# Altium footprint library PcbLib1.PcbLib: 329 footprints (part 12 of 21)
Each footprint in its own frame and in the unit in brackets; x right, y up, seen from the top. Pads: shape width x height; smd on the part's side, far side on the other; paste and mask are expansions set on the pad; w line width, h text height; cw(c..) or ccw(c..) is an arc to the next point about the centre after c.
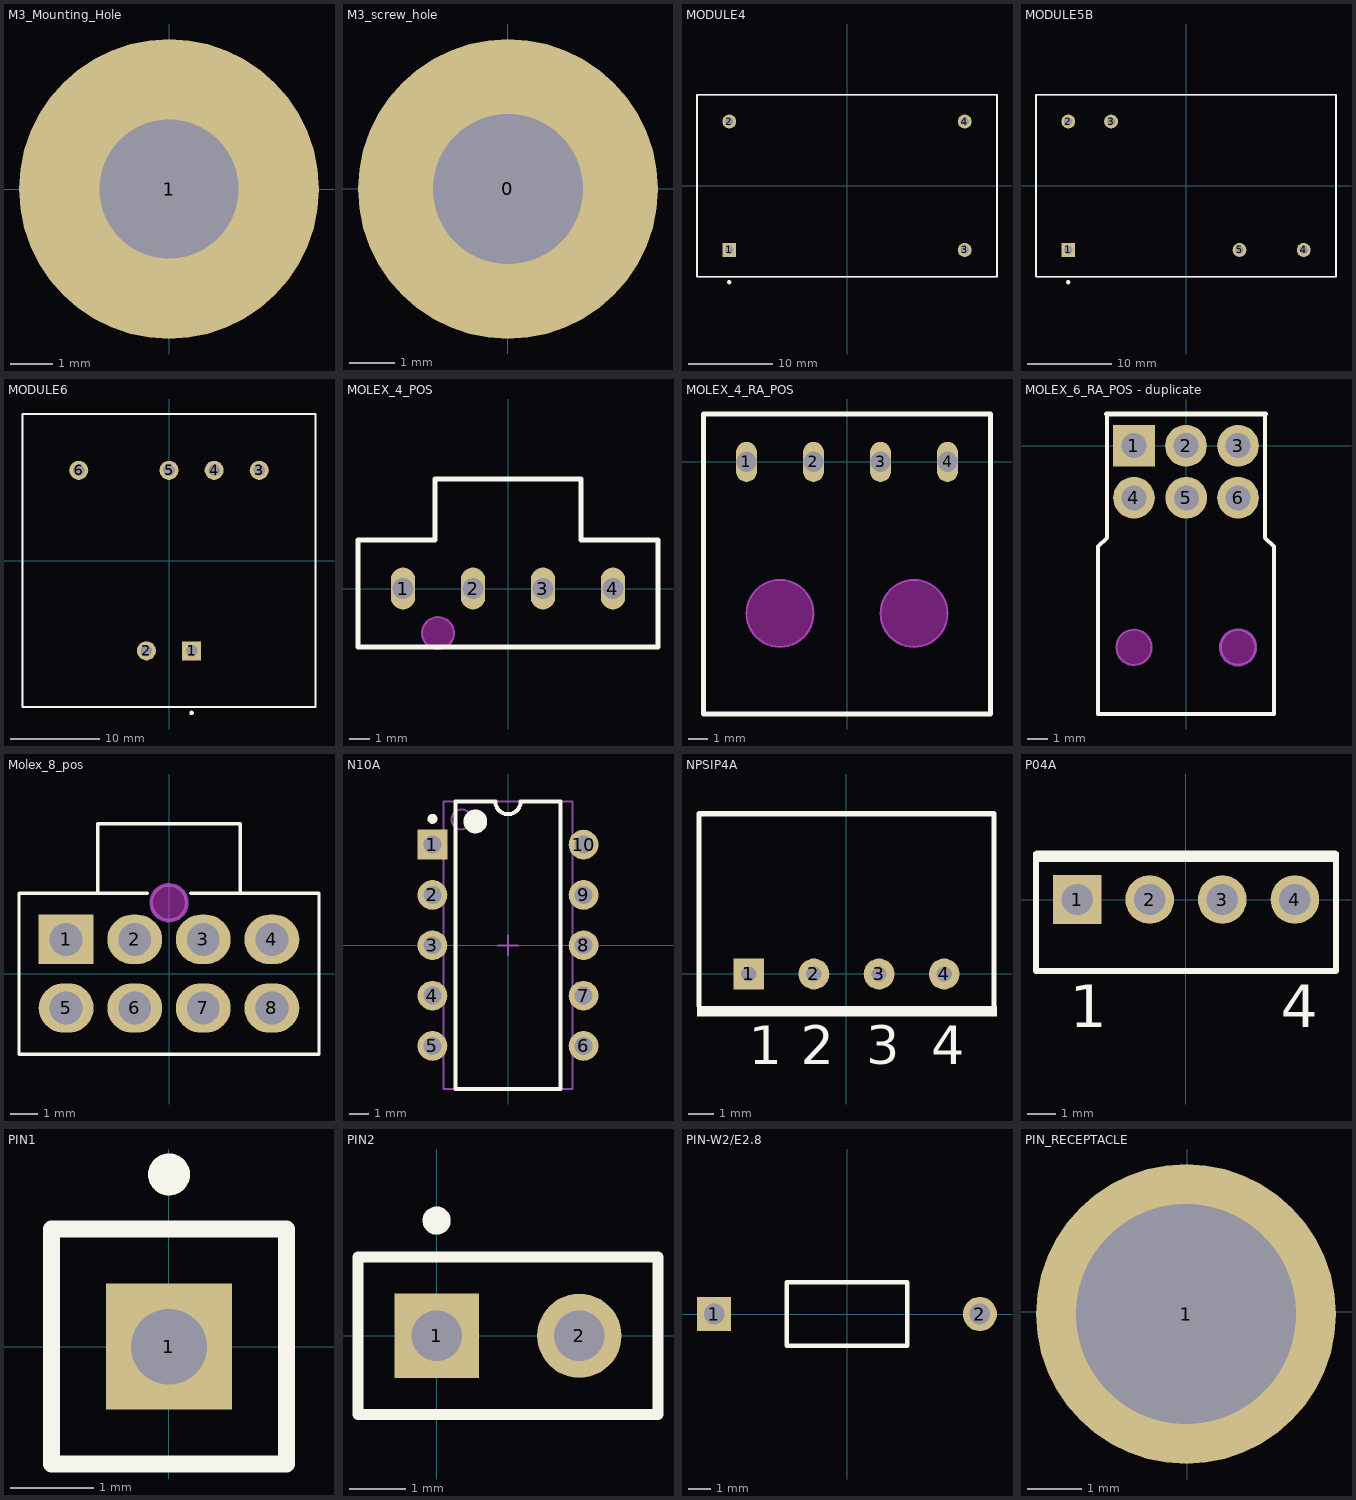
[diagram p11: the footprints below, top view; thin cyan lines are the x and y axes]

## M3_Mounting_Hole [mil] "Mounting Hole for M3 screw"
pads (1):
  round 280 hole 130: 1(0,0)

## M3_screw_hole [mil]
pads (1):
  round 260 hole 130: 0(0,0)

## MODULE4 [mm] "DIP; 4 Round Pins; Row Space 27.94 mm; Pitch 15.24 mm"
height 14
pads (4):
  rect 1.65x1.65 hole 1: 1(-13.97,-7.62)
  round 1.65 hole 1: 2(-13.97,7.62) 3(13.97,-7.62) 4(13.97,7.62)
Top Overlay:
  circle w0.25: c-13.97,-11.45 r0.125
  lines w0.2: -17.8,-10.8 17.8,-10.8 17.8,10.8 -17.8,10.8 -17.8,-10.8
Mechanical 13:
  lines w0.1: -17.8,-10.8 17.8,-10.8 17.8,10.8 -17.8,10.8 -17.8,-10.8
3D body: height 14, standoff 0, extent -17.8,-10.8 17.8,10.8

## MODULE5B [mm] "DIP; 5 Round Pins; Row Space 15.24 mm; Pitch 2.54 mm"
height 14
pads (5):
  rect 1.65x1.65 hole 1: 1(-13.97,-7.62)
  round 1.65 hole 1: 2(-13.97,7.62) 3(-8.89,7.62) 4(13.97,-7.62) 5(6.35,-7.62)
Top Overlay:
  circle w0.25: c-13.97,-11.45 r0.125
  lines w0.2: -17.8,-10.8 17.8,-10.8 17.8,10.8 -17.8,10.8 -17.8,-10.8
Mechanical 13:
  lines w0.1: -17.8,-10.8 -17.8,10.8 17.8,10.8 17.8,-10.8 -17.8,-10.8
3D body: height 14, standoff 0, extent -17.8,-10.8 17.8,10.8

## MODULE6 [mm] "DIP; 6 Round Pins; Row Space 20.32 mm; Pitch 2.54 mm"
height 16.5
pads (6):
  rect 2.15x2.15 hole 1.3: 1(2.54,-10.16)
  round 2.15 hole 1.3: 2(-2.54,-10.16) 3(10.16,10.16) 4(5.08,10.16) 5(0,10.16) 6(-10.16,10.16)
Top Overlay:
  circle w0.25: c2.54,-17.15 r0.125
  lines w0.2: -16.5,-16.5 16.5,-16.5 16.5,16.5 -16.5,16.5 -16.5,-16.5
Mechanical 13:
  lines w0.1: -16.5,-16.5 16.5,-16.5 16.5,16.5 -16.5,16.5 -16.5,-16.5
3D body: height 16.5, standoff 0, extent -16.5,-16.5 16.5,16.5

## MOLEX_4_POS [mm] "CONN HEADER VERT 4POS 3.5MM"
pads (4):
  oval 1.217x2.1 hole 1.06: 1(-5.25,0) 2(-1.75,0) 3(1.75,0) 4(5.25,0)
Top Overlay:
  lines w0.254: -7.5,2.42 -7.5,-2.93 7.5,-2.93 7.5,2.42 ; -7.402,2.42 -3.645,2.42 -3.645,5.48 3.645,5.48 3.645,2.42 7.44,2.42
Keep-Out Layer:
  board cut-out: -3.5,-3.03 -3.579,-3.03 -3.733,-2.999 -3.879,-2.939 -4.01,-2.851 -4.121,-2.74 -4.209,-2.609 -4.269,-2.463 -4.3,-2.309 -4.3,-2.23 -4.3,-2.151 -4.269,-1.997 -4.209,-1.851 -4.121,-1.72 -4.01,-1.609 -3.879,-1.521 -3.733,-1.461 -3.579,-1.43 -3.5,-1.43 -3.421,-1.43 -3.267,-1.461 -3.121,-1.521 -2.99,-1.609 -2.879,-1.72 -2.791,-1.851 -2.731,-1.997 -2.7,-2.151 -2.7,-2.23 -2.7,-2.309 -2.731,-2.463 -2.791,-2.609 -2.879,-2.74 -2.99,-2.851 -3.121,-2.939 -3.267,-2.999 -3.421,-3.03
Mechanical 15:
  circle w0.1: c-3.5,-2.23 r0.8
3D body: height 0.81, standoff -7.04, extent 0.013,-2.93 0.013,-2.93
3D body: height 0.81, standoff -7.04, extent 0.013,-2.93 0.013,-2.93
3D body "1722861104.stp": height 8.05, standoff -9.1, extent -8.024,-2.862 7.976,5.808

## MOLEX_4_RA_POS [mm] "CONN HEADER R/A 4POS 3.5MM"
pads (4):
  oval 1.09x2.1 hole 1.06: 1(-5.25,0) 2(-1.75,0) 3(1.75,0) 4(5.25,0)
Top Overlay:
  lines w0.254: -7.5,-13.16 7.5,-13.16 7.5,2.5 -7.5,2.5 -7.5,-13.16
Keep-Out Layer:
  board cut-out: 1.75,-7.91 1.75,-8.082 1.817,-8.42 1.949,-8.739 2.141,-9.026 2.384,-9.269 2.671,-9.461 2.99,-9.593 3.328,-9.66 3.5,-9.66 3.672,-9.66 4.01,-9.593 4.329,-9.461 4.616,-9.269 4.859,-9.026 5.051,-8.739 5.183,-8.42 5.25,-8.082 5.25,-7.91 5.25,-7.738 5.183,-7.4 5.051,-7.081 4.859,-6.794 4.616,-6.551 4.329,-6.359 4.01,-6.227 3.672,-6.16 3.5,-6.16 3.328,-6.16 2.99,-6.227 2.671,-6.359 2.384,-6.551 2.141,-6.794 1.949,-7.081 1.817,-7.4 1.75,-7.738
  board cut-out: -5.25,-7.91 -5.25,-8.082 -5.183,-8.42 -5.051,-8.739 -4.859,-9.026 -4.616,-9.269 -4.329,-9.461 -4.01,-9.593 -3.672,-9.66 -3.5,-9.66 -3.328,-9.66 -2.99,-9.593 -2.671,-9.461 -2.384,-9.269 -2.141,-9.026 -1.949,-8.739 -1.817,-8.42 -1.75,-8.082 -1.75,-7.91 -1.75,-7.738 -1.817,-7.4 -1.949,-7.081 -2.141,-6.794 -2.384,-6.551 -2.671,-6.359 -2.99,-6.227 -3.328,-6.16 -3.5,-6.16 -3.672,-6.16 -4.01,-6.227 -4.329,-6.359 -4.616,-6.551 -4.859,-6.794 -5.051,-7.081 -5.183,-7.4 -5.25,-7.738
Mechanical 15:
  circle w0.1: c-3.5,-7.91 r1.75
  circle w0.1: c3.5,-7.91 r1.75
3D body: height 0.81, standoff -7.04, extent 0.013,-2.93 0.013,-2.93
3D body: height 0.81, standoff -7.04, extent 0.013,-2.93 0.013,-2.93

## MOLEX_6_RA_POS - duplicate [mm] "CONN HEADER R/A 6POS 2.5MM"
pads (6):
  rect 2x2 hole 1.2: 1(-2.5,0)
  round 2 hole 1.2: 2(0,0) 3(2.5,0) 4(-2.5,-2.5) 5(0.013,-2.5) 6(2.5,-2.5)
Top Overlay:
  lines w0.2: -3.8,1.524 -3.8,-4.42 -4.22,-4.84 -4.22,-12.88 4.22,-12.88 4.22,-5.617 4.22,-4.84 3.8,-4.42 3.8,1.524
  lines w0.254: -3.8,1.524 3.8,1.524
Keep-Out Layer:
  board cut-out: -3.35,-9.68 -3.35,-9.764 -3.317,-9.928 -3.253,-10.083 -3.16,-10.222 -3.042,-10.34 -2.903,-10.433 -2.748,-10.497 -2.584,-10.53 -2.5,-10.53 -2.416,-10.53 -2.252,-10.497 -2.097,-10.433 -1.958,-10.34 -1.84,-10.222 -1.747,-10.083 -1.683,-9.928 -1.65,-9.764 -1.65,-9.68 -1.65,-9.596 -1.683,-9.432 -1.747,-9.277 -1.84,-9.138 -1.958,-9.02 -2.097,-8.927 -2.252,-8.863 -2.416,-8.83 -2.5,-8.83 -2.584,-8.83 -2.748,-8.863 -2.903,-8.927 -3.042,-9.02 -3.16,-9.138 -3.253,-9.277 -3.317,-9.432 -3.35,-9.596
  board cut-out: 1.65,-9.68 1.65,-9.764 1.683,-9.928 1.747,-10.083 1.84,-10.222 1.958,-10.34 2.097,-10.433 2.252,-10.497 2.416,-10.53 2.5,-10.53 2.584,-10.53 2.748,-10.497 2.903,-10.433 3.042,-10.34 3.16,-10.222 3.253,-10.083 3.317,-9.928 3.35,-9.764 3.35,-9.68 3.35,-9.596 3.317,-9.432 3.253,-9.277 3.16,-9.138 3.042,-9.02 2.903,-8.927 2.748,-8.863 2.584,-8.83 2.5,-8.83 2.416,-8.83 2.252,-8.863 2.097,-8.927 1.958,-9.02 1.84,-9.138 1.747,-9.277 1.683,-9.432 1.65,-9.596
Mechanical 15:
  drawing of 5 lines, arcs and shapes, not listed
3D body "1053141206.stp": height 7.85, standoff -4.49, extent -4.22,-14.326 4.22,0.332
3D body: height 0.81, standoff -7.04, extent 0.013,-2.93 0.013,-2.93
3D body: height 0.81, standoff -7.04, extent 0.013,-2.93 0.013,-2.93

## Molex_8_pos [mm] "0878310841 Molex 8 pos 2mm"
pads (8):
  rect 2x1.8 hole 1.2: 1(-3.75,1.25)
  oval 2x1.8 hole 1.2: 2(-1.25,1.25) 3(1.25,1.25) 4(3.75,1.25) 5(-3.75,-1.25) 6(-1.25,-1.25) 7(1.25,-1.25) 8(3.75,-1.25)
Top Overlay:
  lines w0.127: -2.6,2.981 -2.6,5.47 2.6,5.47 2.6,3.007 ; -0.8,2.94 -5.47,2.94 -5.47,-2.94 5.47,-2.94 5.47,2.94 0.8,2.94
Keep-Out Layer:
  board cut-out: 0,1.94 -0.064,1.94 -0.19,1.965 -0.308,2.014 -0.414,2.085 -0.505,2.176 -0.576,2.282 -0.625,2.4 -0.65,2.526 -0.65,2.59 -0.65,2.654 -0.625,2.78 -0.576,2.898 -0.505,3.004 -0.414,3.095 -0.308,3.166 -0.19,3.215 -0.064,3.24 0,3.24 0.064,3.24 0.19,3.215 0.308,3.166 0.414,3.095 0.505,3.004 0.576,2.898 0.625,2.78 0.65,2.654 0.65,2.59 0.65,2.526 0.625,2.4 0.576,2.282 0.505,2.176 0.414,2.085 0.308,2.014 0.19,1.965 0.064,1.94
Mechanical 15:
  circle w0.14: c0,2.59 r0.65
3D body "1053101208.stp": height 5.03, standoff -8.68, extent -5.461,-2.896 5.479,5.944

## N10A [mm] "DIP; 10 Leads; Row Spacing 7.62 mm; Pitch 2.54 mm"
height 5.08
pads (10):
  rect 1.5x1.5 hole 0.9: 1(-3.81,5.08)
  round 1.5 hole 0.9: 2(-3.81,2.54) 3(-3.81,0) 4(-3.81,-2.54) 5(-3.81,-5.08) 6(3.81,-5.08) 7(3.81,-2.54) 8(3.81,0) 9(3.81,2.54) 10(3.81,5.08)
Top Overlay:
  circle w0.6: c-1.65,6.25 r0.3
  circle w0.25: c-3.81,6.38 r0.125
  lines w0.2: -2.65,-7.25 2.65,-7.25 2.65,7.25 0.635,7.25 cw(c0,7.25) -0.635,7.25 -2.65,7.25 -2.65,-7.25
Mechanical 13:
  circle w0.1: c-2.35,6.35 r0.5
  lines w0.1: -3.25,-7.25 3.25,-7.25 3.25,7.25 -3.25,7.25 -3.25,-7.25
Mechanical 15:
  lines w0.1: -0.5,0 0.5,0 ; 0,-0.5 0,0.5
3D body: height 5.08, standoff 0, extent -3.25,-7.25 3.25,7.25

## NPSIP4A [mm] "SIP; 4 Leads; Body 10 x 11.5 x 7.5 mm (typ); Pitch 2.54 mm"
height 10.6
pads (4):
  rect 1.2x1.2 hole 0.6: 1(-3.81,0)
  round 1.2 hole 0.6: 2(-1.27,0) 3(1.27,0) 4(3.81,0)
Top Overlay:
  rectangle: -5.83,-1.65 5.87,-1.25
  lines w0.2: -5.75,-1.25 -5.75,6.25 5.75,6.25 5.75,-1.25
  text "4" at 3.302,-3.52 h1.5
  text "3" at 0.762,-3.52 h1.5
  text "2" at -1.778,-3.52 h1.5
  text "1" at -3.81,-3.52 h1.5

## P04A [mm] "TO, Thru-Hole, Vertical, Heatsink Mounted; 4 In-Line Leads; Pitch 2.54 mm"
height 20.6
pads (4):
  rect 1.7x1.7 hole 1.1: 1(-3.81,0)
  round 1.7 hole 1.1: 2(-1.27,0) 3(1.27,0) 4(3.81,0)
Top Overlay:
  rectangle: -5.25,1.311 5.25,1.711
  lines w0.2: -5.25,1.6 -5.25,-2.5 5.25,-2.5 5.25,1.6
  text "4" at 3.31,-4.475 h1.5
  text "1" at -4.06,-4.475 h1.5

## PIN1 [mm] "Generic Antenna; 1 Lead"
pads (1):
  rect 1.5x1.5 hole 0.9: 1(0,0)
Top Overlay:
  circle w0.25: c0,2.05 r0.125
  lines w0.2: -1.4,-1.4 -1.4,1.4 1.4,1.4 1.4,-1.4 -1.4,-1.4

## PIN2 [mm] "Photosensitive Diode; 2 Leads"
pads (2):
  rect 1.5x1.5 hole 0.9: 1(0,0)
  round 1.5 hole 0.9: 2(2.54,0)
Top Overlay:
  circle w0.25: c0,2.05 r0.125
  lines w0.2: -1.4,-1.4 -1.4,1.4 3.94,1.4 3.94,-1.4 -1.4,-1.4

## PIN-W2/E2.8 [mm] "Thru-Hole; 2 Leads"
pads (2):
  rect 1.5x1.5 hole 0.9: 1(-5.825,0)
  round 1.5 hole 0.9: 2(5.825,0)
Top Overlay:
  lines w0.2: -2.65,-1.4 -2.65,1.4 2.65,1.4 2.65,-1.4 -2.65,-1.4

## PIN_RECEPTACLE [mm]
pads (1):
  round 5.5 hole 4.04: 1(-0.025,-0.038)
3D body "mill-max-0391-0-15-15-07-XX-10-0.step": height 0.73, standoff -7.11, extent -2.4,-2.4 2.4,2.4
3D body: height 0.25, standoff 0, extent 0,0 0,0